# Altium footprint library affichage.PcbLib: 16 footprints
Each footprint in its own frame and in the unit in brackets; x right, y up, seen from the top. Pads: shape width x height; smd on the part's side, far side on the other; paste and mask are expansions set on the pad; w line width, h text height; cw(c..) or ccw(c..) is an arc to the next point about the centre after c.
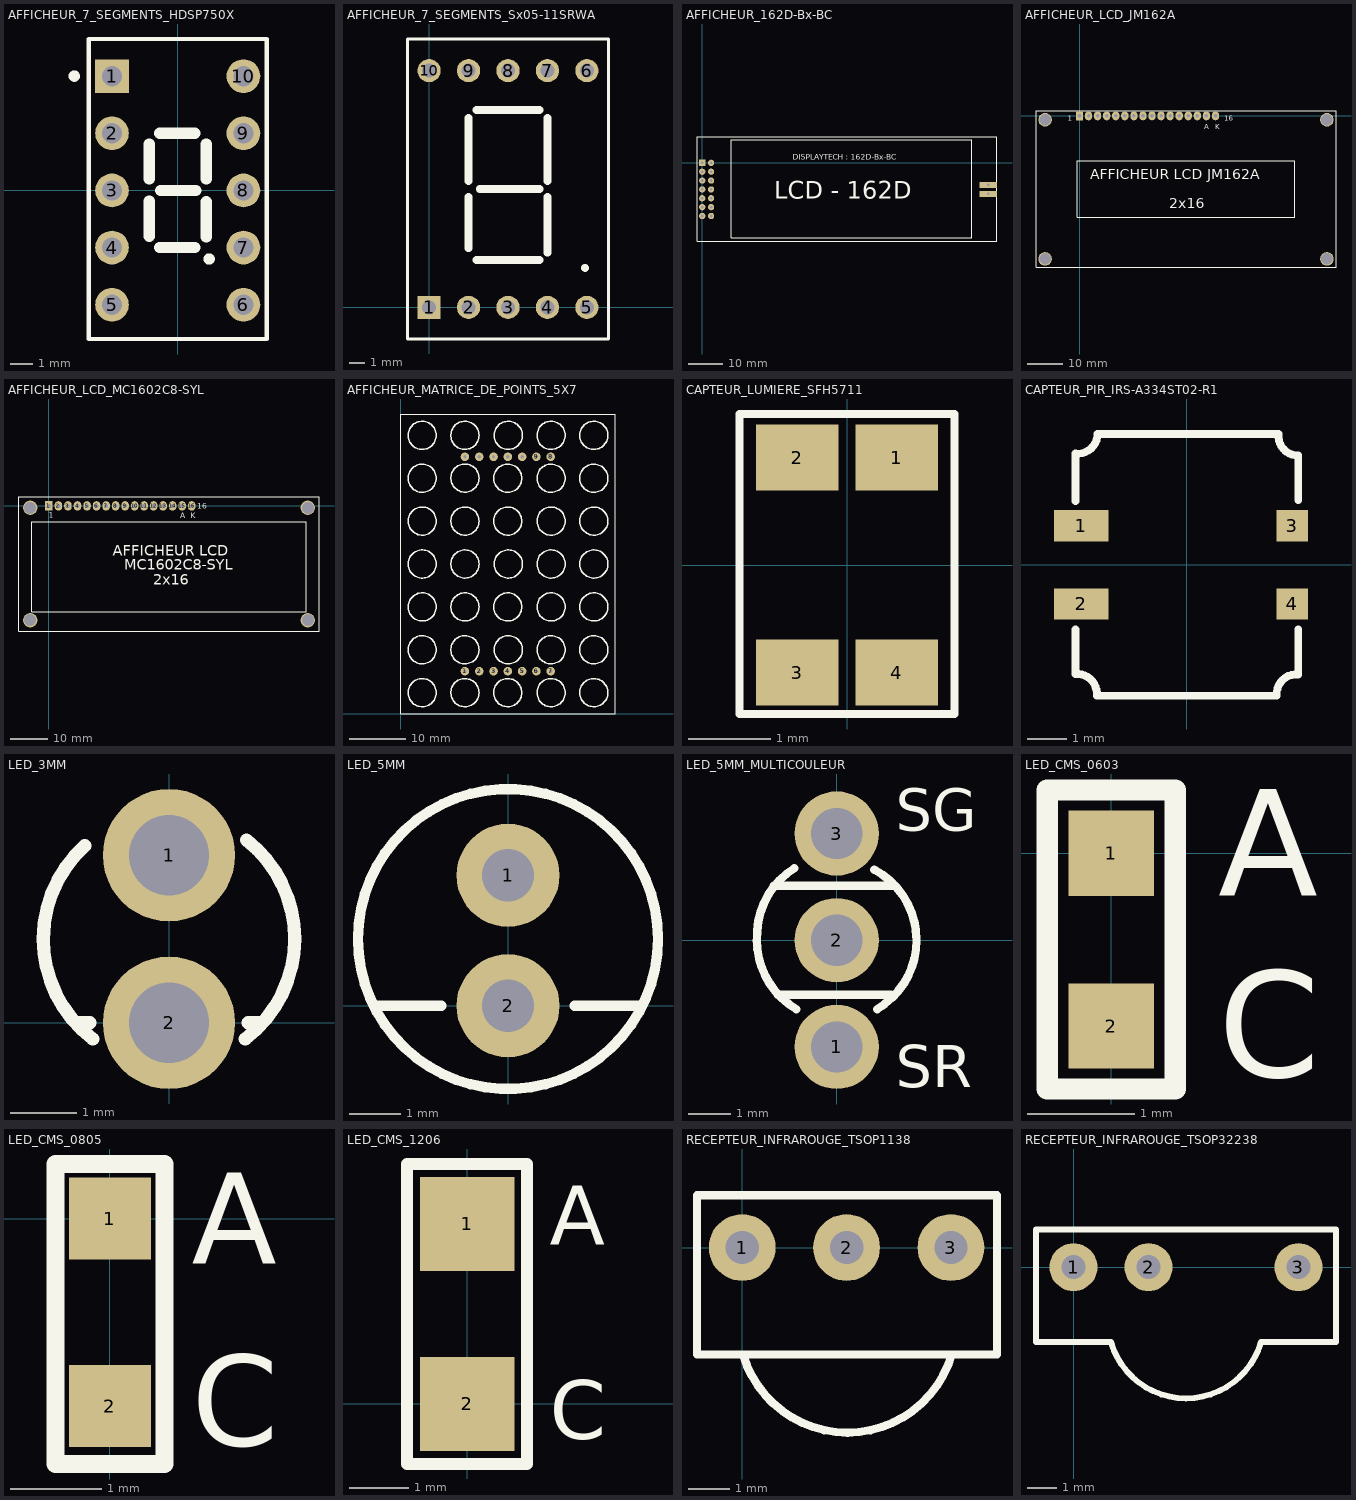
[diagram p0: the footprints below, top view; thin cyan lines are the x and y axes]

## AFFICHEUR_7_SEGMENTS_HDSP750X [mm] "AFFICHEUR 7 SEGMENTS; HDSP750X ; 7.62mm ; 10 BROCHES ; ESPACE ENTRE RANGEES : 7.62mm ; PAS : 2.54mm"
height 6.34
pads (10):
  rect 1.5x1.5 hole 0.9: 1(-2.921,5.08)
  round 1.5 hole 0.9: 2(-2.921,2.54) 3(-2.921,0) 4(-2.921,-2.54) 5(-2.921,-5.08) 6(2.921,-5.08) 7(2.921,-2.54) 8(2.921,0) 9(2.921,2.54) 10(2.921,5.08)
Top Overlay:
  circle w0.25: c1.399,-3.048 r0.125
  circle w0.25: c-4.6,5.08 r0.125
  lines w0.2: -3.95,-6.604 3.95,-6.604 3.95,6.731 -3.95,6.731 -3.95,-6.604
  lines w0.5: -1.27,-2.032 -1.27,-0.472 ; -1.27,0.508 -1.27,2.068 ; -0.798,-2.54 0.762,-2.54 ; -0.798,2.54 0.762,2.54 ; -0.762,0 0.798,0 ; 1.27,-2.068 1.27,-0.508 ; 1.27,0.508 1.27,2.068
3D body: height 6, standoff -4.5, extent -3.75,-6.35 3.75,6.45

## AFFICHEUR_7_SEGMENTS_Sx05-11SRWA [mm] "AFFICHEUR 7 SEGMENTS; SA05-11SRWA ; 10 BROCHES ; ESPACE ENTRE RANGEES : 15.24mm ; PAS : 2.54mm"
height 8
pads (10):
  rect 1.5x1.5 hole 0.9: 1(0,0)
  round 1.5 hole 0.9: 2(2.54,0) 3(5.08,0) 4(7.62,0) 5(10.16,0) 6(10.16,15.24) 7(7.62,15.24) 8(5.08,15.24) 9(2.54,15.24) 10(0,15.24)
Top Overlay:
  circle w0.25: c10.035,2.54 r0.125
  lines w0.2: -1.397,-2.032 -1.397,17.272 11.557,17.272 11.557,-2.032 -1.397,-2.032
  lines w0.5: 2.54,3.81 2.54,7.112 ; 2.54,8.128 2.54,12.192 ; 3.048,3.048 7.112,3.048 ; 3.048,12.7 7.112,12.7 ; 3.266,7.62 7.112,7.62 ; 7.62,3.52 7.62,7.112 ; 7.62,8.128 7.62,12.192
3D body: height 8.03, standoff -3.97, extent -1.27,-1.905 11.43,17.145

## AFFICHEUR_162D-Bx-BC [mm] "AFFICHEUR LCD DISPLAYTECH SERIE 162D-Ba/c-BC ; 35mm x 80mm"
pads (16):
  rect 1.8x1.8 hole 0.762: 1(0,0)
  round 1.8 hole 0.762: 2(2.54,0) 3(0,-2.54) 4(2.54,-2.54) 5(0,-5.08) 6(2.54,-5.08) 7(0,-7.62) 8(2.54,-7.62) 9(0,-10.16) 10(2.54,-10.16) 11(0,-12.7) 12(2.54,-12.7) 13(0,-15.24) 14(2.54,-15.24)
  rect 5x1.7 hole 0.762: 15(82,-6.3) 16(82,-8.9)
Top Overlay:
  lines w0.254: 84.328,7.5 -1.5,7.5 -1.5,-22.5 84.5,-22.5 84.5,7.5 ; 8.3,-21.5 77.3,-21.5 77.3,5.8 77.3,6.6 8.3,6.6 8.3,-21.5
  text "LCD - 162D" at 20.6,-10.3 h5
  text "DISPLAYTECH : 162D-Bx-BC" at 25.908,0.889 h1.52

## AFFICHEUR_LCD_JM162A [mil]
pads (20):
  rect 79x100 hole 40: 1(0,0)
  oval 79x100 hole 40: 2(100,0) 3(200,0) 4(300,0) 5(400,0) 6(500,0) 7(600,0) 8(700,0) 9(800,0) 10(900,0) 11(1000,0) 12(1100,0) 13(1200,0) 14(1300,0) 15(1400,0) 16(1500,0)
  round 150 hole 126: FIX1(-380,-43.3) FIX2(2730,-43.3) FIX3(2730,-1578.73) FIX4(-380,-1578.73)
Top Overlay:
  lines w8: -480,-1670 2830,-1670 2830,55 -480,55 -480,-1670 ; -25,-1120 2375,-1120 2375,-495 -25,-495 -25,-1120
  text "2x16" at 990,-1020 h112.5
  text "K" at 1500,-150 h56.25
  text "A" at 1375,-150 h56.25
  text "16" at 1595,-55 h56.25
  text "1" at -130,-55 h56.25
  text "AFFICHEUR LCD JM162A" at 120,-700 h112.5

## AFFICHEUR_LCD_MC1602C8-SYL [mil] "AFFICHEUR LCD 2x16 - 80mm x 35mm"
pads (20):
  rect 79x100 hole 40: 1(0,0)
  oval 79x100 hole 40: 2(100,0) 3(200,0) 4(300,0) 5(400,0) 6(500,0) 7(600,0) 8(700,0) 9(800,0) 10(900,0) 11(1000,0) 12(1100,0) 13(1200,0) 14(1300,0) 15(1400,0) 16(1500,0)
  round 150 hole 126: FIX1(-196.85,-19.68) FIX2(2720.47,-19.68) FIX3(2720.47,-1200.79) FIX4(-196.85,-1200.79)
Top Overlay:
  lines w8: -314.96,-1318.9 -314.96,98.43 2838.58,98.43 2838.58,-1318.9 -314.96,-1318.9 ; -178.54,-1114.17 -178.54,-168.23 2704.72,-168.23 2704.72,-1114.17 -178.54,-1114.17
  text "MC1602C8-SYL" at 790,-670 h112.5
  text "AFFICHEUR LCD" at 669.29,-523.62 h112.5
  text "1" at -3.94,-125.98 h56.25
  text "16" at 1559.06,-27.56 h56.25
  text "A" at 1381.89,-129.92 h56.25
  text "K" at 1488.19,-129.92 h56.25
  text "2x16" at 1094.49,-826.77 h112.5
3D body: height 334.65, standoff -104.35, extent -60.94,-47.5 1559.06,47.5
3D body: height 847.07, standoff 327.07, extent -326.77,-1354.33 2842.52,82.68
3D body: height 492.13, standoff 35.43, extent -60.94,-50 1539.06,50

## AFFICHEUR_MATRICE_DE_POINTS_5X7 [mm] "AFFICHEUR MATRICE DE POINTS 5x7 ; DIMENSIONS : 38.1mm x 53mm ; ESPACEMENT BROCHES : 2.54mm ; ESPACEMENT RANGEES : 38.1mm"
height 8.45
pads (14):
  round 1.524 hole 0.6: 1(11.4,7.6) 2(13.94,7.6) 3(16.48,7.6) 4(19.02,7.6) 5(21.56,7.6) 6(24.1,7.6) 7(26.64,7.6) 8(26.64,45.7) 9(24.1,45.7) 10(21.56,45.7) 11(19.02,45.7) 12(16.48,45.7) 13(13.94,45.7) 14(11.4,45.7)
Top Overlay:
  circle w0.254: c3.8,3.79 r2.5
  circle w0.254: c11.4,3.79 r2.5
  circle w0.254: c19,3.79 r2.5
  circle w0.254: c26.7,3.79 r2.5
  circle w0.254: c34.3,3.79 r2.5
  circle w0.254: c34.3,11.41 r2.5
  circle w0.254: c26.7,11.41 r2.5
  circle w0.254: c19.1,11.41 r2.5
  circle w0.254: c11.4,11.41 r2.5
  circle w0.254: c3.8,11.41 r2.5
  circle w0.254: c3.8,19.03 r2.5
  circle w0.254: c11.4,19.03 r2.5
  circle w0.254: c19,19.03 r2.5
  circle w0.254: c26.7,19.03 r2.5
  circle w0.254: c34.3,19.03 r2.5
  circle w0.254: c3.8,26.65 r2.5
  circle w0.254: c11.4,26.65 r2.5
  circle w0.254: c19.1,26.65 r2.5
  circle w0.254: c26.7,26.65 r2.5
  circle w0.254: c34.3,26.65 r2.5
  circle w0.254: c34.3,34.27 r2.5
  circle w0.254: c26.7,34.27 r2.5
  circle w0.254: c19,34.27 r2.5
  circle w0.254: c11.4,34.27 r2.5
  circle w0.254: c3.8,34.27 r2.5
  circle w0.254: c3.8,41.89 r2.5
  circle w0.254: c11.4,41.91 r2.5
  circle w0.254: c19,41.89 r2.5
  circle w0.254: c26.7,41.89 r2.5
  circle w0.254: c34.3,41.89 r2.5
  circle w0.254: c34.3,49.51 r2.5
  circle w0.254: c26.7,49.51 r2.5
  circle w0.254: c19.1,49.51 r2.5
  circle w0.254: c11.4,49.51 r2.5
  circle w0.254: c3.8,49.51 r2.5
  lines w0.2: 0,0 38.1,0 38.1,53.3 0,53.3 0,0
3D body: height 8, standoff 0, extent 0.072,0.2 38.2,53.1

## CAPTEUR_LUMIERE_SFH5711 [mm]
pads (4):
  rect 1x0.8 smd: 1(0.6,1.3) 2(-0.6,1.3) 3(-0.6,-1.3) 4(0.6,-1.3)
Top Overlay:
  lines w0.1: -1.3,-1.8 -1.3,1.826 1.3,1.826 1.3,-1.8 -1.3,-1.8
3D body: height 1.3, standoff -0.05, extent -1.3,-1.9 1.3,1.9

## CAPTEUR_PIR_IRS-A334ST02-R1 [mm]
pads (4):
  rect 1.4x0.8 smd: 1(-2.7,1) 2(-2.7,-1)
  rect 0.8x0.8 smd: 3(2.7,1) 4(2.7,-1)
Top Overlay:
  lines w0.2: -2.85,-2.794 cw(c-2.808,-3.3) -2.302,-3.35 ; -2.85,-2.792 -2.85,-1.651 ; -2.85,1.635 -2.85,2.842 ; -2.85,2.845 ccw(c-2.794,3.35) -2.286,3.35 2.342,3.35 ; -2.3,-3.35 2.3,-3.35 cw(c2.806,-3.308) 2.85,-2.802 ; 2.344,3.35 ccw(c2.85,3.302) 2.85,2.794 2.85,1.651 ; 2.85,-2.803 2.85,-1.651

## LED_3MM [mil] "LED 3MM ; ESPACEMENT BROCHES : 2.54mm"
height 236.22
pads (2):
  round 79 hole 48: 1(0,100) 2(0,0)
Top Overlay:
  lines w7.87: -50.24,105.68 ccw(c0,50) -75,50 ccw(c0,50) -45.54,-9.59 ; 45.54,-9.59 ccw(c0,50) 75,50 ccw(c0,50) 46.29,109.01 ; 47.24,0 55,0
  lines w8: -55,0 -47.24,0
3D body: height 217.04, standoff -97.93, extent -64.74,-15.75 64.74,114.17

## LED_5MM [mil] "LED 5mm ; ESPACEMENT BROCHES : 2.54mm"
height 472.44
pads (2):
  round 79 hole 40: 1(0,100) 2(0,0)
Top Overlay:
  circle w7.87: c0,51.18 r114.98
  lines w7.87: -102.36,0 -51.18,0 ; 51.18,0 102.36,0
3D body: height 484.75, standoff -97.93, extent -118.88,-51.18 118.11,162.21

## LED_5MM_MULTICOULEUR [mil] "LED 5MM MULTICOULEUR ; ESPACEMENT BROCHES : 2.54mm"
height 236.22
pads (3):
  round 79 hole 48: 1(0,-100) 2(0,0) 3(0,100)
Top Overlay:
  lines w7.87: -74.8,0 ccw(c0.2,0) -37.97,-64.56 ; -74.7,0.01 cw(c0.2,3.94) -39.7,67.45 ; -59.06,51.18 55.12,51.18 ; -55.12,-51.18 51.18,-51.18 ; 35.05,66.2 cw(c-0.2,0) 74.8,0 cw(c-0.2,0) 37.97,-64.56
  text "SG" at 55.12,102.36 h39.37
  text "SR" at 55.12,-137.8 h39.37

## LED_CMS_0603 [mm] "LED CMS 0603 ; DIMENSIONS : 2.0mm x 0.9mm"
height 1.1
pads (2):
  rect 0.8x0.8 smd: 1(0,0) 2(0,-1.62)
Top Overlay:
  lines w0.2: -0.6,-2.21 -0.6,0.59 0.6,0.59 0.6,-2.21 -0.6,-2.21
  text "A" at 1,-0.4 h1
  text "C" at 1,-2.1 h1
3D body: height 0.6, standoff 0, extent -0.4,-1.62 0.4,0

## LED_CMS_0805 [mm] "LED CMS 0805 ; DIMENSIONS : 2.0mm x 0.9mm"
height 1.1
pads (2):
  rect 0.9x0.9 smd: 1(0,0) 2(0,-2.063)
Top Overlay:
  lines w0.2: -0.6,-2.7 -0.6,0.6 0.6,0.6 0.6,-2.7 -0.6,-2.7
  text "A" at 0.9,-0.5 h1
  text "C" at 0.9,-2.5 h1
3D body: height 0.85, standoff 0.01, extent -0.453,-2.063 0.453,0

## LED_CMS_1206 [mm] "LED CMS 1206 ; DIMENSIONS : 3.2mm x 1.6mm"
height 1.1
pads (2):
  rect 1.6x1.6 smd: 1(0,3.048) 2(0,0)
Top Overlay:
  lines w0.203: -1.016,-1.016 1.016,-1.016 1.016,4.064 -1.016,4.064 -1.016,-1.016
  text "C" at 1.4,-0.6 h1
  text "A" at 1.4,2.7 h1
3D body: height 1.11, standoff -0.4, extent -0.8,-0.1 0.8,3.1

## RECEPTEUR_INFRAROUGE_TSOP1138 [mil] "RECEPTEUR INFRAROUGE ; ESPACEMENT BROCHES : 2.54mm"
height 393.7
pads (3):
  round 64 hole 32: 1(0,0) 2(100,0) 3(200,0)
Top Overlay:
  lines w7.87: 0.79,-102.36 ccw(c100.79,-73.2) 200.79,-102.36 ; -43.31,-102.36 244.09,-102.36 244.09,50 -43.31,50 -43.31,-102.36

## RECEPTEUR_INFRAROUGE_TSOP32238 [mil] "RECEPTEUR INFRAROUGE ; ESPACEMENT BROCHES : 2.54mm"
height 393.7
pads (3):
  round 64 hole 32: 1(0,0) 2(100,0) 3(300,0)
Top Overlay:
  lines w7.87: -50,-100 -50,50 350,50 350,-100 250,-100 cw(c150,-70.83) 50,-100 -50,-100
3D body: height 531.5, standoff -125.98, extent -47.24,-167.32 346.46,145.67